# Altium footprint library PCBLib.PcbLib: 1 footprints
Each footprint in its own frame and in the unit in brackets; x right, y up, seen from the top. Pads: shape width x height; smd on the part's side, far side on the other; paste and mask are expansions set on the pad; w line width, h text height; cw(c..) or ccw(c..) is an arc to the next point about the centre after c.
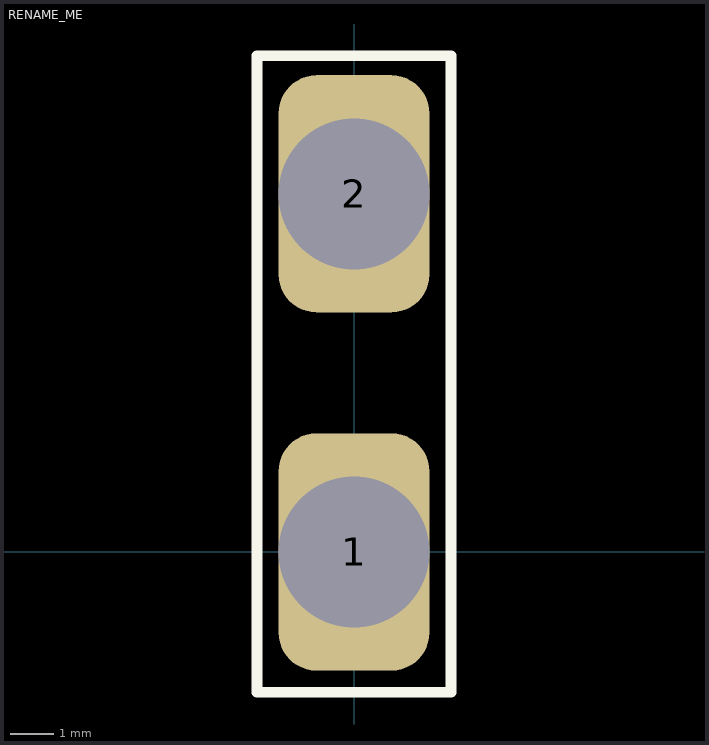
[diagram p0: the footprint, top view; thin cyan lines are the x and y axes]

## RENAME_ME [mm]
pads (2):
  rrect50% 3.5x5.5 hole 3.5 square: 1(0,0) 2(0,8.3)
Top Overlay:
  lines w0.25: -2.25,-3.25 2.25,-3.25 2.25,11.5 -2.25,11.5 -2.25,-3.25
3D body "CAR-FUSE.step": height 10.8, standoff -6.13, extent -1.909,-1.25 1.9,9.65